# Altium footprint library PowerComponents.PcbLib: 8 footprints
Each footprint in its own frame and in the unit in brackets; x right, y up, seen from the top. Pads: shape width x height; smd on the part's side, far side on the other; paste and mask are expansions set on the pad; w line width, h text height; cw(c..) or ccw(c..) is an arc to the next point about the centre after c.
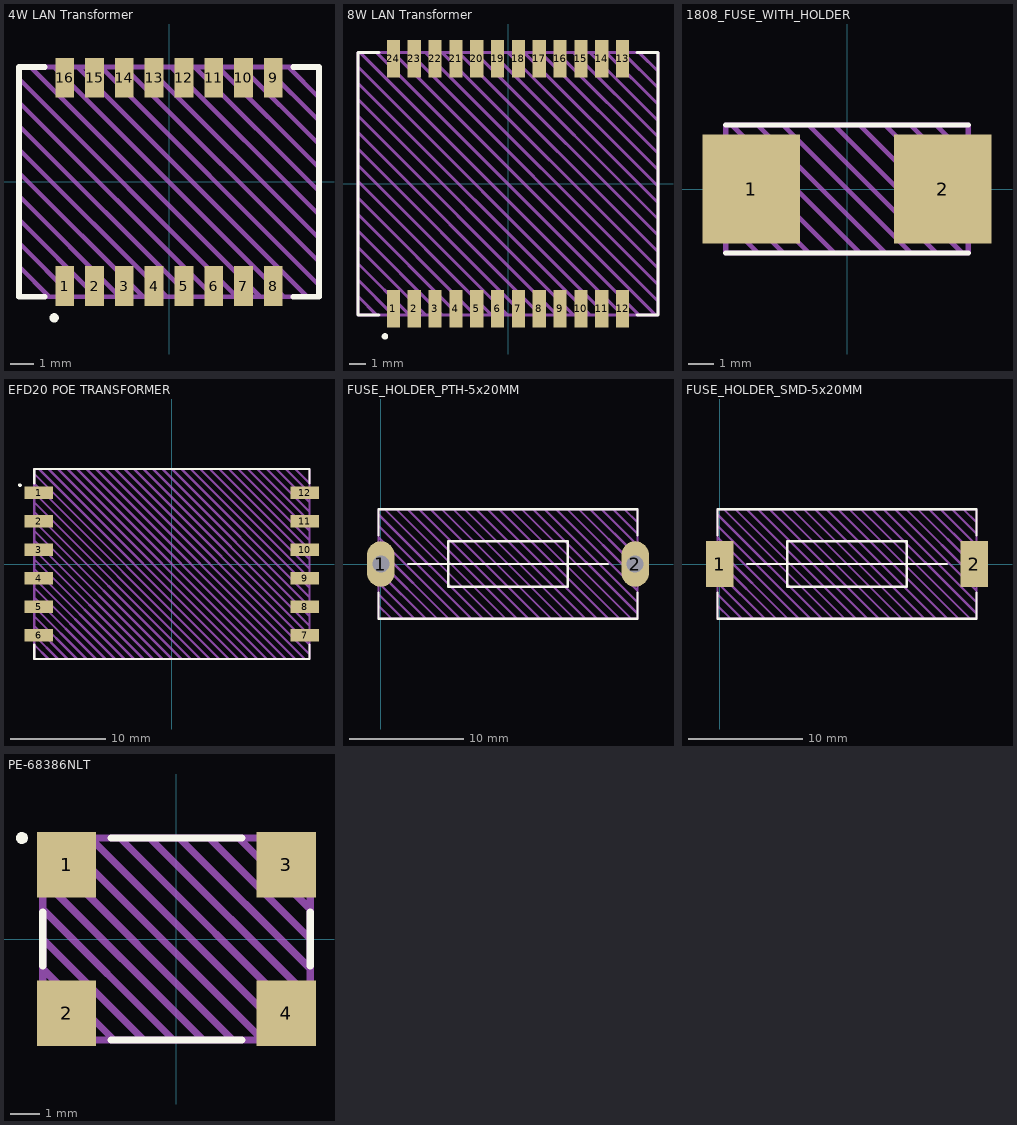
[diagram p0: the footprints below, top view; thin cyan lines are the x and y axes]

## 4W LAN Transformer [mm]
pads (16):
  rect 0.8x1.7 smd: 1(-4.445,-4.445) 2(-3.175,-4.445) 3(-1.905,-4.445) 4(-0.635,-4.445) 5(0.635,-4.445) 6(1.905,-4.445) 7(3.175,-4.445) 8(4.445,-4.445) 9(4.445,4.445) 10(3.175,4.445) 11(1.905,4.445) 12(0.635,4.445) 13(-0.635,4.445) 14(-1.905,4.445) 15(-3.175,4.445) 16(-4.445,4.445)
Top Overlay:
  circle w0.2: c-4.9,-5.8 r0.1
  lines w0.25: -5.3,-4.9 -6.4,-4.9 -6.4,4.9 -5.3,4.9 ; 5.3,-4.9 6.4,-4.9 6.4,4.9 5.3,4.9
Top Draw:
  lines w0.2: -6.4,-3.6 -5.1,-4.9 ; -6.4,-2.6 -4.1,-4.9 ; -6.4,-1.6 -3.1,-4.9 ; -6.4,-0.6 -2.1,-4.9 ; -6.4,0.4 -1.1,-4.9 ; -6.4,1.4 -0.1,-4.9 ; -6.4,2.4 0.9,-4.9 ; -6.4,3.4 1.9,-4.9 ; -6.4,4.4 2.9,-4.9 ; -5.9,4.9 3.9,-4.9 ; -4.9,4.9 4.9,-4.9 ; -3.9,4.9 5.9,-4.9 ; -2.9,4.9 6.4,-4.4 ; -1.9,4.9 6.4,-3.4 ; -0.9,4.9 6.4,-2.4 ; 0.1,4.9 6.4,-1.4 ; 1.1,4.9 6.4,-0.4 ; 2.1,4.9 6.4,0.6 ; 3.1,4.9 6.4,1.6 ; 4.1,4.9 6.4,2.6 ; 5.1,4.9 6.4,3.6 ; -6.4,-4.9 -6.4,4.9 6.4,4.9 6.4,-4.9 -6.4,-4.9
Top Info:
  text "'.Comment'" at -4.249,-6.783 h1
3D body "Ethernet Pulse Transformer SMD.step": height 4.89, standoff -0.01, extent -6.35,-4.861 6.35,4.861

## 8W LAN Transformer [mm]
pads (24):
  rect 0.8x2.3 smd: 1(-6.985,-7.62) 2(-5.715,-7.62) 3(-4.445,-7.62) 4(-3.175,-7.62) 5(-1.905,-7.62) 6(-0.635,-7.62) 7(0.635,-7.62) 8(1.905,-7.62) 9(3.175,-7.62) 10(4.445,-7.62) 11(5.715,-7.62) 12(6.985,-7.62) 13(6.985,7.62) 14(5.715,7.62) 15(4.445,7.62) 16(3.175,7.62) 17(1.905,7.62) 18(0.635,7.62) 19(-0.635,7.62) 20(-1.905,7.62) 21(-3.175,7.62) 22(-4.445,7.62) 23(-5.715,7.62) 24(-6.985,7.62)
Top Overlay:
  circle w0.2: c-7.5,-9.3 r0.1
  lines w0.2: -7.874,-8.001 -9.144,-8.001 -9.144,8.001 -7.874,8.001 ; 7.874,-8.001 9.144,-8.001 9.144,8.001 7.874,8.001
Top Draw:
  lines w0.2: -9.144,-6.856 -7.999,-8.001 ; -9.144,-5.856 -6.999,-8.001 ; -9.144,-4.856 -5.999,-8.001 ; -9.144,-3.856 -4.999,-8.001 ; -9.144,-2.856 -3.999,-8.001 ; -9.144,-1.856 -2.999,-8.001 ; -9.144,-0.856 -1.999,-8.001 ; -9.144,0.144 -0.999,-8.001 ; -9.144,1.144 0.001,-8.001 ; -9.144,2.144 1.001,-8.001 ; -9.144,3.144 2.001,-8.001 ; -9.144,4.144 3.001,-8.001 ; -9.144,5.144 4.001,-8.001 ; -9.144,6.144 5.001,-8.001 ; -9.144,7.144 6.001,-8.001 ; -9.001,8.001 7.001,-8.001 ; -8.001,8.001 8.001,-8.001 ; -7.001,8.001 9.001,-8.001 ; -6.001,8.001 9.144,-7.144 ; -5.001,8.001 9.144,-6.144 ; -4.001,8.001 9.144,-5.144 ; -3.001,8.001 9.144,-4.144 ; -2.001,8.001 9.144,-3.144 ; -1.001,8.001 9.144,-2.144 ; -0.001,8.001 9.144,-1.144 ; 0.999,8.001 9.144,-0.144 ; 1.999,8.001 9.144,0.856 ; 2.999,8.001 9.144,1.856 ; 3.999,8.001 9.144,2.856 ; 4.999,8.001 9.144,3.856 ; 5.999,8.001 9.144,4.856 ; 6.999,8.001 9.144,5.856 ; 7.999,8.001 9.144,6.856 ; -9.144,-8.001 9.144,-8.001 9.144,8.001 -9.144,8.001 -9.144,-8.001
Top Info:
  text "'.Comment'" at -6.373,-10.908 h1.5
3D body "7490220115.step": height 6.35, standoff 0, extent -9.15,-8 9.15,8

## 1808_FUSE_TODO [mm]

## 1808_FUSE_WITH_HOLDER [mm]
pads (2):
  rect 3.8x4.25 smd: 1(-3.75,0) 2(3.75,0)
Top Overlay:
  lines w0.2: -4.75,-2.5 4.75,-2.5 ; -4.75,2.5 4.75,2.5
Top Draw:
  lines w0.2: -4.75,-1.25 -3.5,-2.5 ; -4.75,-0.25 -2.5,-2.5 ; -4.75,0.75 -1.5,-2.5 ; -4.75,1.75 -0.5,-2.5 ; -4.5,2.5 0.5,-2.5 ; -3.5,2.5 1.5,-2.5 ; -2.5,2.5 2.5,-2.5 ; -1.5,2.5 3.5,-2.5 ; -0.5,2.5 4.5,-2.5 ; 0.5,2.5 4.75,-1.75 ; 1.5,2.5 4.75,-0.75 ; 2.5,2.5 4.75,0.25 ; 3.5,2.5 4.75,1.25 ; -4.75,-2.5 4.75,-2.5 4.75,2.5 -4.75,2.5 -4.75,-2.5
3D body "1808_FuseWithHolder.step": height 3.75, standoff 0, extent -4.75,-2.5 4.75,2.53

## EFD20 POE TRANSFORMER [mm]
pads (12):
  rect 3x1.3 smd: 1(-14,7.5) 2(-14,4.5) 3(-14,1.5) 4(-14,-1.5) 5(-14,-4.5) 6(-14,-7.5) 7(14,-7.5) 8(14,-4.5) 9(14,-1.5) 10(14,1.5) 11(14,4.5) 12(14,7.5)
Top Overlay:
  circle w0.2: c-16,8.3 r0.1
  lines w0.25: -14.5,-8.5 -14.5,-10 14.5,-10 14.5,-8.5 ; -14.5,8.5 -14.5,10 14.5,10 14.5,8.5
Top Draw:
  lines w0.25: -14.5,-8.5 -13,-10 ; -14.5,-7.5 -12,-10 ; -14.5,-6.5 -11,-10 ; -14.5,-5.5 -10,-10 ; -14.5,-4.5 -9,-10 ; -14.5,-3.5 -8,-10 ; -14.5,-2.5 -7,-10 ; -14.5,-1.5 -6,-10 ; -14.5,-0.5 -5,-10 ; -14.5,0.5 -4,-10 ; -14.5,1.5 -3,-10 ; -14.5,2.5 -2,-10 ; -14.5,3.5 -1,-10 ; -14.5,4.5 0,-10 ; -14.5,5.5 1,-10 ; -14.5,6.5 2,-10 ; -14.5,7.5 3,-10 ; -14.5,8.5 4,-10 ; -14.5,9.5 5,-10 ; -14,10 6,-10 ; -13,10 7,-10 ; -12,10 8,-10 ; -11,10 9,-10 ; -10,10 10,-10 ; -9,10 11,-10 ; -8,10 12,-10 ; -7,10 13,-10 ; -6,10 14,-10 ; -5,10 14.5,-9.5 ; -4,10 14.5,-8.5 ; -3,10 14.5,-7.5 ; -2,10 14.5,-6.5 ; -1,10 14.5,-5.5 ; 0,10 14.5,-4.5 ; 1,10 14.5,-3.5 ; 2,10 14.5,-2.5 ; 3,10 14.5,-1.5 ; 4,10 14.5,-0.5 ; 5,10 14.5,0.5 ; 6,10 14.5,1.5 ; 7,10 14.5,2.5 ; 8,10 14.5,3.5 ; 9,10 14.5,4.5 ; 10,10 14.5,5.5 ; 11,10 14.5,6.5 ; 12,10 14.5,7.5 ; 13,10 14.5,8.5 ; -14.5,-10 -14.5,10 14.5,10 14.5,-10 -14.5,-10
3D body "EFD20.STEP": height 10.67, standoff 0, extent -14.325,-10 14.325,10

## FUSE_HOLDER_PTH-5x20MM [mm]
pads (2):
  oval 2.4x4 hole 1.5: 1(0,0) 2(22.3,0)
Top Overlay:
  lines w0.2: -0.2,-2.5 -0.2,-4.8 22.5,-4.8 22.5,-2.5 ; -0.2,2.5 -0.2,4.8 22.5,4.8 22.5,2.5 ; 2.4,0 19.9,0 ; 5.9,-2 5.9,2 16.4,2 16.4,-2 5.9,-2
Top Draw:
  lines w0.2: -0.2,-3.65 0.95,-4.8 ; -0.2,-2.65 1.95,-4.8 ; -0.2,-1.65 2.95,-4.8 ; -0.2,-0.65 3.95,-4.8 ; -0.2,0.35 4.95,-4.8 ; -0.2,1.35 5.95,-4.8 ; -0.2,2.35 6.95,-4.8 ; -0.2,3.35 7.95,-4.8 ; -0.2,4.35 8.95,-4.8 ; 0.35,4.8 9.95,-4.8 ; 1.35,4.8 10.95,-4.8 ; 2.35,4.8 11.95,-4.8 ; 3.35,4.8 12.95,-4.8 ; 4.35,4.8 13.95,-4.8 ; 5.35,4.8 14.95,-4.8 ; 6.35,4.8 15.95,-4.8 ; 7.35,4.8 16.95,-4.8 ; 8.35,4.8 17.95,-4.8 ; 9.35,4.8 18.95,-4.8 ; 10.35,4.8 19.95,-4.8 ; 11.35,4.8 20.95,-4.8 ; 12.35,4.8 21.95,-4.8 ; 13.35,4.8 22.5,-4.35 ; 14.35,4.8 22.5,-3.35 ; 15.35,4.8 22.5,-2.35 ; 16.35,4.8 22.5,-1.35 ; 17.35,4.8 22.5,-0.35 ; 18.35,4.8 22.5,0.65 ; 19.35,4.8 22.5,1.65 ; 20.35,4.8 22.5,2.65 ; 21.35,4.8 22.5,3.65 ; -0.2,-4.8 22.5,-4.8 22.5,4.8 -0.2,4.8 -0.2,-4.8
Top Info:
  text "'.Comment'" at 2.653,-7.666 h2
3D body "FuseHolderPTH-5x20mm_Fuse.step": height 12.01, standoff -3.49, extent -0.196,-4.8 22.504,4.8

## FUSE_HOLDER_SMD-5x20MM [mm]
pads (2):
  rect 2.4x4 smd: 1(0,0) 2(22.3,0)
Top Overlay:
  lines w0.2: -0.2,-2.5 -0.2,-4.8 22.5,-4.8 22.5,-2.5 ; -0.2,2.5 -0.2,4.8 22.5,4.8 22.5,2.5 ; 2.4,0 19.9,0 ; 5.9,-2 16.4,-2 16.4,2 5.9,2 5.9,-2
Top Draw:
  lines w0.2: -0.2,-3.65 0.95,-4.8 ; -0.2,-2.65 1.95,-4.8 ; -0.2,-1.65 2.95,-4.8 ; -0.2,-0.65 3.95,-4.8 ; -0.2,0.35 4.95,-4.8 ; -0.2,1.35 5.95,-4.8 ; -0.2,2.35 6.95,-4.8 ; -0.2,3.35 7.95,-4.8 ; -0.2,4.35 8.95,-4.8 ; 0.35,4.8 9.95,-4.8 ; 1.35,4.8 10.95,-4.8 ; 2.35,4.8 11.95,-4.8 ; 3.35,4.8 12.95,-4.8 ; 4.35,4.8 13.95,-4.8 ; 5.35,4.8 14.95,-4.8 ; 6.35,4.8 15.95,-4.8 ; 7.35,4.8 16.95,-4.8 ; 8.35,4.8 17.95,-4.8 ; 9.35,4.8 18.95,-4.8 ; 10.35,4.8 19.95,-4.8 ; 11.35,4.8 20.95,-4.8 ; 12.35,4.8 21.95,-4.8 ; 13.35,4.8 22.5,-4.35 ; 14.35,4.8 22.5,-3.35 ; 15.35,4.8 22.5,-2.35 ; 16.35,4.8 22.5,-1.35 ; 17.35,4.8 22.5,-0.35 ; 18.35,4.8 22.5,0.65 ; 19.35,4.8 22.5,1.65 ; 20.35,4.8 22.5,2.65 ; 21.35,4.8 22.5,3.65 ; -0.2,-4.8 -0.2,4.8 22.5,4.8 22.5,-4.8 -0.2,-4.8
Top Info:
  text "'.Comment'" at 2.653,-7.666 h2
3D body "FuseHolderSMD-5x20mm_Fuse.step": height 12.01, standoff 0.01, extent -0.196,-4.8 22.504,4.8

## PE-68386NLT [mm]
pads (4):
  rect 2x2.2 smd: 1(-3.7,2.5) 2(-3.7,-2.5) 3(3.7,2.5) 4(3.7,-2.5)
Top Overlay:
  circle w0.2: c-5.2,3.4 r0.1
  lines w0.25: -4.5,-0.9 -4.5,0.9 ; -2.2,-3.4 2.2,-3.4 ; -2.2,3.4 2.2,3.4 ; 4.5,-0.9 4.5,0.9
Top Draw:
  lines w0.25: -4.5,-2 -3.1,-3.4 ; -4.5,-1 -2.1,-3.4 ; -4.5,0 -1.1,-3.4 ; -4.5,1 -0.1,-3.4 ; -4.5,2 0.9,-3.4 ; -4.5,3 1.9,-3.4 ; -3.9,3.4 2.9,-3.4 ; -2.9,3.4 3.9,-3.4 ; -1.9,3.4 4.5,-3 ; -0.9,3.4 4.5,-2 ; 0.1,3.4 4.5,-1 ; 1.1,3.4 4.5,0 ; 2.1,3.4 4.5,1 ; 3.1,3.4 4.5,2 ; -4.5,-3.4 4.5,-3.4 4.5,3.4 -4.5,3.4 -4.5,-3.4
Top Info:
  text "'.Comment'" at -4.249,-5.083 h1
3D body "PE-68386NLT.step": height 2.5, standoff 0, extent -4.5,-3.35 4.5,3.35